# Altium footprint library sm_diode.PcbLib: 24 footprints (part 1 of 2)
Each footprint in its own frame and in the unit in brackets; x right, y up, seen from the top. Pads: shape width x height; smd on the part's side, far side on the other; paste and mask are expansions set on the pad; w line width, h text height; cw(c..) or ccw(c..) is an arc to the next point about the centre after c.
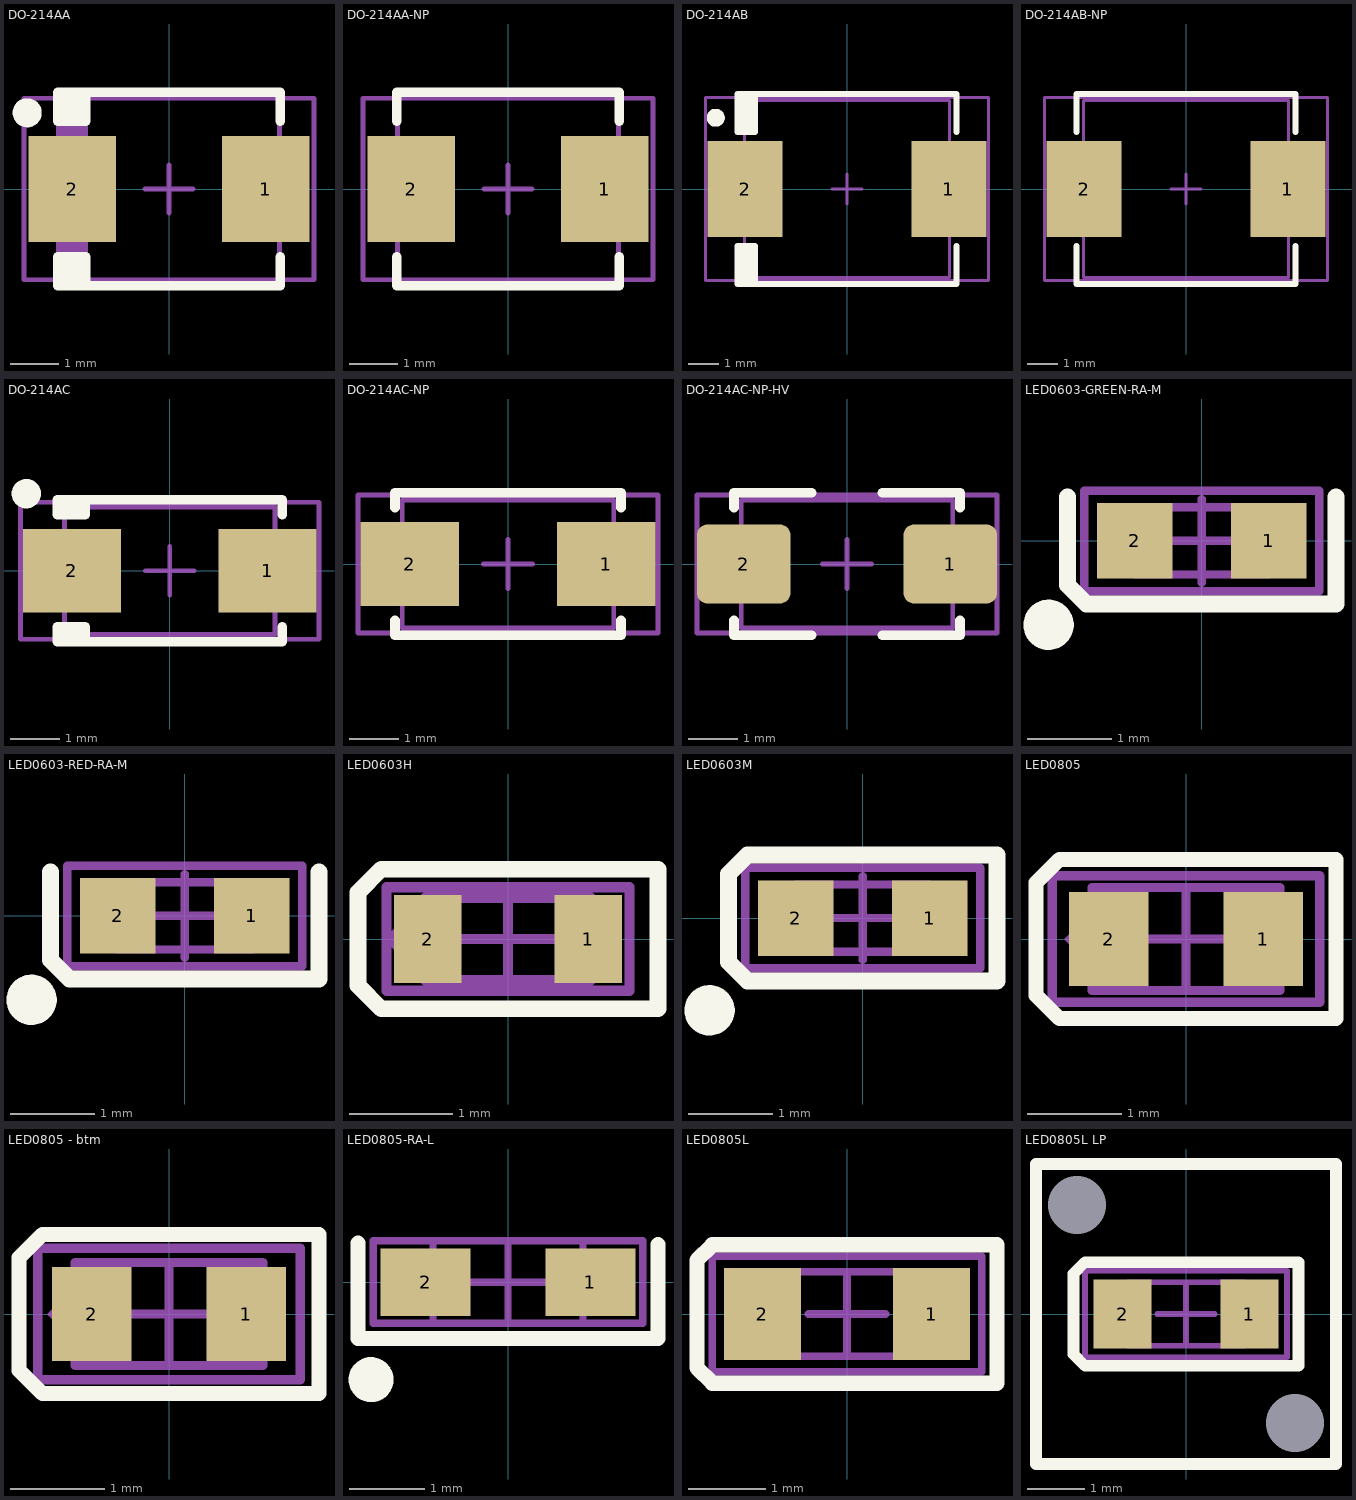
[diagram p0: the footprints below, top view; thin cyan lines are the x and y axes]

## DO-214AA [mm] "Molded Diode, 2-Leads, Body 4.3x3.6mm, IPC High Density"
height 2.4
pads (2):
  rect 1.8x2.2 smd: 1(2,0) 2(-2,0)
Top Overlay:
  circle w0.3: c-2.93,1.575 r0.15
  rectangle: -2.3,1.4 -1.735,2
  rectangle: -2.3,-2 -1.735,-1.4
  lines w0.2: -1.725,-2 -1.725,-1.4 -2.3,-1.4 -2.3,-2 2.3,-2 2.3,-1.405 ; -1.725,2 -1.725,1.4 -2.3,1.4 -2.3,2 2.3,2 2.3,1.405
Mechanical 13:
  rectangle: -2.285,-1.97 -1.67,1.97
  lines w0.1: -0.5,0 0.5,0 ; 0,-0.5 0,0.5 ; -2.285,-1.97 2.285,-1.97 2.285,1.97 -2.285,1.97 -2.285,-1.97
Mechanical 15:
  region: -2.1,-0.7 -2.8,0 -2.1,0.7
  lines w0.1: -3,-1.875 3,-1.875 3,1.875 -3,1.875 -3,-1.875
  text ".Designator" at -0.875,-0.175 h0.5
3D body "SW3dPS-DO-214AA SMB.step": height 2.3, standoff 0, extent -2.7,-1.8 2.7,1.8

## DO-214AA-NP [mm] "Molded Diode, 2-Leads, Body 4.3x3.6mm, IPC High Density"
height 2.4
pads (2):
  rect 1.8x2.2 smd: 1(2,0) 2(-2,0)
Top Overlay:
  lines w0.2: -2.3,-1.4 -2.3,-2 2.3,-2 2.3,-1.405 ; -2.3,1.4 -2.3,2 2.3,2 2.3,1.405
Mechanical 13:
  lines w0.1: -0.5,0 0.5,0 ; 0,-0.5 0,0.5 ; -2.285,-1.97 -2.285,1.97 2.285,1.97 2.285,-1.97 -2.285,-1.97
Mechanical 15:
  lines w0.1: -3,-1.875 -3,1.875 3,1.875 3,-1.875 -3,-1.875
  text ".Designator" at -0.875,-0.175 h0.8
3D body "SW3dPS-DO-214AA SMB.step": height 2.3, standoff 0, extent -2.7,-1.8 2.7,1.8

## DO-214AB [mm] "Molded Diode, 2-Leads, Body 6.9x6.1mm, IPC Medium Density"
height 2.5
pads (2):
  rect 2.5x3.2 smd: 1(3.4,0) 2(-3.4,0)
Top Overlay:
  circle w0.3: c-4.375,2.375 r0.15
  rectangle: -3.64,1.875 -3.075,3.175
  rectangle: -3.65,-3.175 -3.085,-1.875
  lines w0.2: -3.075,-3.175 -3.075,-1.9 -3.65,-1.9 -3.65,-3.175 3.65,-3.175 3.65,-1.9 ; -3.075,3.175 -3.075,1.9 -3.65,1.9 -3.65,3.175 3.65,3.175 3.65,1.9
Mechanical 13:
  lines w0.1: -3.425,-1.525 -3.975,-1.525 -3.975,1.525 -3.425,1.525 ; -0.5,0 0.5,0 ; 0,-0.5 0,0.5 ; 3.425,-1.525 3.975,-1.525 3.975,1.525 3.425,1.525 ; -3.425,-2.95 3.425,-2.95 3.425,2.95 -3.425,2.95 -3.425,-2.95
Mechanical 15:
  region: -3.7,-0.8 -4.5,0 -3.7,0.8
  lines w0.1: -4.725,-3.05 4.725,-3.05 4.725,3.05 -4.725,3.05 -4.725,-3.05
  text ".Designator" at -0.875,-0.175 h0.5
3D body "User Library-DO-214AB SMC.step": height 2.3, standoff 0, extent -3.975,-2.95 3.975,2.95

## DO-214AB-NP [mm] "Molded Diode, 2-Leads, Body 6.9x6.1mm, IPC Medium Density"
height 2.5
pads (2):
  rect 2.5x3.2 smd: 1(3.4,0) 2(-3.4,0)
Top Overlay:
  lines w0.2: -3.65,-1.9 -3.65,-3.175 3.65,-3.175 3.65,-1.9 ; -3.65,1.9 -3.65,3.175 3.65,3.175 3.65,1.9
Mechanical 13:
  lines w0.1: -3.425,-1.525 -3.975,-1.525 -3.975,1.525 -3.425,1.525 ; -0.5,0 0.5,0 ; 0,-0.5 0,0.5 ; 3.425,-1.525 3.975,-1.525 3.975,1.525 3.425,1.525 ; -3.425,-2.95 -3.425,2.95 3.425,2.95 3.425,-2.95 -3.425,-2.95
Mechanical 15:
  lines w0.1: -4.725,-3.05 -4.725,3.05 4.725,3.05 4.725,-3.05 -4.725,-3.05
  text ".Designator" at -0.875,-0.175 h0.8
3D body "User Library-DO-214AB SMC.step": height 2.3, standoff 0, extent -3.975,-2.95 3.975,2.95

## DO-214AC [mm] "Molded Diode, 2-Leads, Body 4.3x2.6mm, IPC High Density"
height 2.15
pads (2):
  rect 2x1.7 smd: 1(2,0) 2(-2,0)
Top Overlay:
  circle w0.3: c-2.93,1.575 r0.15
  rectangle: -2.3,1.125 -1.725,1.45
  rectangle: -2.3,-1.45 -1.71,-1.125
  lines w0.2: -1.725,-1.45 -1.725,-1.15 -2.3,-1.15 -2.3,-1.45 2.3,-1.45 2.3,-1.15 ; -1.725,1.45 -1.725,1.15 -2.3,1.15 -2.3,1.45 2.3,1.45 2.3,1.15
Mechanical 13:
  lines w0.1: -0.5,0 0.5,0 ; 0,-0.5 0,0.5 ; -2.15,-1.3 2.15,-1.3 2.15,1.3 -2.15,1.3 -2.15,-1.3
Mechanical 15:
  region: -2.3,-0.6 -2.9,0 -2.3,0.6
  lines w0.1: -3.05,-1.4 3.05,-1.4 3.05,1.4 -3.05,1.4 -3.05,-1.4
  text ".Designator" at -0.875,-0.175 h0.5
3D body "DO-214AC.step": height 2.3, standoff -0.1, extent -2.6,-1.3 2.6,1.3

## DO-214AC-NP [mm] "Molded Diode, 2-Leads, Body 4.3x2.6mm, IPC Medium Density"
height 2.15
pads (2):
  rect 2x1.7 smd: 1(2,0) 2(-2,0)
Top Overlay:
  lines w0.2: -2.3,-1.15 -2.3,-1.45 2.3,-1.45 2.3,-1.15 ; -2.3,1.15 -2.3,1.45 2.3,1.45 2.3,1.15
Mechanical 13:
  lines w0.1: -0.5,0 0.5,0 ; 0,-0.5 0,0.5 ; -2.15,-1.3 -2.15,1.3 2.15,1.3 2.15,-1.3 -2.15,-1.3
Mechanical 15:
  lines w0.1: -3.05,-1.4 -3.05,1.4 3.05,1.4 3.05,-1.4 -3.05,-1.4
  text ".Designator" at -0.875,-0.175 h0.5
3D body "User Library-SMAJ.step": height 2.01, standoff 0.01, extent -2.465,-1.27 2.465,1.27

## DO-214AC-NP-HV [mm] "Molded Diode, 2-Leads, Body 4.3x2.6mm, High Voltage"
height 2.15
pads (2):
  rrect25% 1.9x1.6 smd: 1(2.1,0) 2(-2.1,0)
Top Overlay:
  lines w0.2: -2.3,-1.15 -2.3,-1.45 -0.725,-1.45 ; -2.3,1.15 -2.3,1.45 -0.725,1.45 ; 0.725,-1.45 2.3,-1.45 2.3,-1.15 ; 0.725,1.45 2.3,1.45 2.3,1.15
Mechanical 13:
  lines w0.1: -0.5,0 0.5,0 ; 0,-0.5 0,0.5 ; -2.15,-1.3 2.15,-1.3 2.15,1.3 -2.15,1.3 -2.15,-1.3
Mechanical 15:
  lines w0.1: -3.05,-1.4 3.05,-1.4 3.05,1.4 -3.05,1.4 -3.05,-1.4
  text ".Designator" at -0.875,-0.175 h0.8
3D body "User Library-SMAJ.step": height 2.01, standoff 0.01, extent -2.465,-1.27 2.465,1.27

## LED0603-GREEN-RA-M [mm] "Chip LED 0603 - Right Angle - Medium Density"
height 0.75
pads (2):
  rect 0.9x0.9 smd: 1(0.8,0) 2(-0.8,0)
Top Overlay:
  circle w0.3: c-1.825,-1 r0.15
  lines w0.2: -1.6,0.525 -1.6,-0.525 -1.375,-0.75 1.6,-0.75 1.6,0.525
Mechanical 13:
  lines w0.1: -0.5,0 0.5,0 ; 0,-0.5 0,0.5 ; -0.8,-0.4 0.8,-0.4 0.8,0.4 -0.8,0.4 -0.8,-0.4
Mechanical 15:
  region: -0.875,-0.325 -1.2,0 -0.875,0.325
  lines w0.1: -1.4,-0.6 1.4,-0.6 1.4,0.6 -1.4,0.6 -1.4,-0.6
  text ".Designator" at -0.775,-0.275 h0.5
3D body "User Library-LTST-S270KGKT-1.step": height 0.62, standoff 0.02, extent -0.825,-0.275 0.825,0.875

## LED0603-RED-RA-M [mm] "Chip LED 0603 - Right Angle - Medium Density"
height 0.75
pads (2):
  rect 0.9x0.9 smd: 1(0.8,0) 2(-0.8,0)
Top Overlay:
  circle w0.3: c-1.825,-1 r0.15
  lines w0.2: -1.6,0.525 -1.6,-0.525 -1.375,-0.75 1.6,-0.75 1.6,0.525
Mechanical 13:
  lines w0.1: -0.5,0 0.5,0 ; 0,-0.5 0,0.5 ; -0.8,-0.4 0.8,-0.4 0.8,0.4 -0.8,0.4 -0.8,-0.4
Mechanical 15:
  region: -0.875,-0.325 -1.2,0 -0.875,0.325
  lines w0.1: -1.4,-0.6 1.4,-0.6 1.4,0.6 -1.4,0.6 -1.4,-0.6
  text ".Designator" at -0.775,-0.275 h0.5
3D body "User Library-LTST-S270CKT.step": height 0.62, standoff 0.02, extent -0.825,-0.275 0.825,0.875

## LED0603H [mm] "Chip LED 0603 - High Density"
height 0.75
pads (2):
  rect 0.65x0.85 smd: 1(0.775,0) 2(-0.775,0)
Top Overlay:
  lines w0.16: -1.45,-0.45 -1.45,0.45 -1.225,0.675 1.45,0.675 1.45,-0.675 -1.225,-0.675 -1.45,-0.45
Mechanical 13:
  lines w0.1: -0.5,0 0.5,0 ; 0,-0.5 0,0.5 ; -0.8,-0.4 -0.8,0.4 0.8,0.4 0.8,-0.4 -0.8,-0.4
Mechanical 15:
  region: -0.875,-0.325 -1.2,0 -0.875,0.325
  lines w0.1: -1.175,-0.5 -1.175,0.5 1.175,0.5 1.175,-0.5 -1.175,-0.5
  text ".Designator" at -0.775,-0.275 h0.5
3D body "User Library-LED0603.step": height 1.11, standoff 0.01, extent -0.8,-0.394 0.8,0.394

## LED0603M [mm] "Chip LED 0603 - Medium Density"
height 0.75
pads (2):
  rect 0.9x0.9 smd: 1(0.8,0) 2(-0.8,0)
Top Overlay:
  circle w0.3: c-1.825,-1.1 r0.15
  lines w0.2: -1.6,-0.525 -1.375,-0.75 1.6,-0.75 1.6,0.75 -1.375,0.75 -1.6,0.525 -1.6,-0.525
Mechanical 13:
  lines w0.1: -0.5,0 0.5,0 ; 0,-0.5 0,0.5 ; -0.8,-0.4 0.8,-0.4 0.8,0.4 -0.8,0.4 -0.8,-0.4
Mechanical 15:
  region: -0.875,-0.325 -1.2,0 -0.875,0.325
  lines w0.1: -1.4,-0.6 1.4,-0.6 1.4,0.6 -1.4,0.6 -1.4,-0.6
  text ".Designator" at -0.775,-0.275 h0.5
3D body "User Library-LED0603.step": height 1.11, standoff 0.01, extent -0.8,-0.394 0.8,0.394

## LED0805 [mm] "Chip LED 0805"
height 0.8
pads (2):
  rect 0.85x1 smd: 1(0.825,0) 2(-0.825,0)
Top Overlay:
  lines w0.16: -1.6,-0.6 -1.35,-0.85 1.6,-0.85 1.6,0.85 -1.35,0.85 -1.6,0.6 -1.6,-0.6
Mechanical 13:
  lines w0.1: -0.5,0 0.5,0 ; 0,-0.5 0,0.5 ; -1,-0.55 1,-0.55 1,0.55 -1,0.55 -1,-0.55
Mechanical 15:
  region: -0.975,-0.325 -1.3,0 -0.975,0.325
  lines w0.1: -1.425,-0.675 1.425,-0.675 1.425,0.675 -1.425,0.675 -1.425,-0.675
  text ".Designator" at -0.775,-0.275 h0.5
3D body "User Library-LED SMD0805.step": height 0.83, standoff -0.01, extent -1.031,-0.453 1.031,0.453

## LED0805 - btm [mm] "Chip LED 0805"
height 0.8
pads (2):
  rect 0.85x1 smd: 1(0.825,0) 2(-0.825,0)
Top Overlay:
  lines w0.16: -1.6,-0.6 -1.35,-0.85 1.6,-0.85 1.6,0.85 -1.35,0.85 -1.6,0.6 -1.6,-0.6
Mechanical 13:
  lines w0.1: -0.5,0 0.5,0 ; 0,-0.5 0,0.5 ; -1,-0.55 1,-0.55 1,0.55 -1,0.55 -1,-0.55
Mechanical 18:
  region: -0.975,-0.325 -1.3,0 -0.975,0.325
  lines w0.1: -1.4,-0.7 -1.4,0.7 1.4,0.7 1.4,-0.7 -1.4,-0.7
  text ".Designator" at -0.1,-0.1 h0.5
3D body "User Library-LED SMD0805.step": height 0.83, standoff -0.01, extent -1.031,-0.453 1.031,0.453

## LED0805-RA-L [mm] "Chip LED 0805 - Right Angle, Low Density"
height 0.6
pads (2):
  rect 1.2x0.9 smd: 1(1.1,0) 2(-1.1,0)
Top Overlay:
  circle w0.3: c-1.825,-1.3 r0.15
  lines w0.2: -2,0.525 -2,-0.75 2,-0.75 2,0.5
Mechanical 13:
  lines w0.1: -0.5,0 0.5,0 ; 0,-0.5 0,0.5 ; -1,-0.55 -1,0.55 1,0.55 1,-0.55 -1,-0.55
Mechanical 15:
  region: -1.25,-0.325 -1.575,0 -1.25,0.325
  lines w0.1: -1.8,-0.55 -1.8,0.55 1.8,0.55 1.8,-0.55 -1.8,-0.55
  text ".Designator" at -0.775,-0.275 h0.5
3D body: height 0.6, standoff 0, extent -0.65,0.25 0.65,0.75
3D body: height 0.6, standoff 0, extent 0.75,-0.25 1.05,0.25
3D body: height 0.6, standoff 0, extent -1.05,-0.25 -0.75,0.25
3D body: height 0.6, standoff 0, extent -0.75,-0.25 0.75,0.25

## LED0805L [mm] "Chip LED 0805 - Low Density"
height 0.8
pads (2):
  rect 1x1.2 smd: 1(1.1,0) 2(-1.1,0)
Top Overlay:
  lines w0.2: -1.95,-0.7 -1.95,0.7 -1.75,0.9 1.95,0.9 1.95,-0.9 -1.75,-0.9 -1.95,-0.7
Mechanical 13:
  lines w0.1: -0.5,0 0.5,0 ; 0,-0.5 0,0.5 ; -1,-0.55 -1,0.55 1,0.55 1,-0.55 -1,-0.55
Mechanical 15:
  region: -1.25,-0.325 -1.575,0 -1.25,0.325
  lines w0.1: -1.75,-0.75 -1.75,0.75 1.75,0.75 1.75,-0.75 -1.75,-0.75
  text ".Designator" at -0.775,-0.275 h0.5
3D body "User Library-LED SMD0805.step": height 0.83, standoff -0.01, extent -1.031,-0.453 1.031,0.453

## LED0805L LP [mm] "Chip LED 0805 - With Light Pipe - Low Density"
height 0.8
pads (4):
  round 0 hole 1 unplated: 0(-1.89,1.89) 0(1.89,-1.89)
  rect 1x1.2 smd: 1(1.1,0) 2(-1.1,0)
Top Overlay:
  lines w0.2: -2.6,-2.6 -2.6,2.6 2.6,2.6 2.6,-2.6 -2.6,-2.6 ; -1.95,-0.7 -1.75,-0.9 1.95,-0.9 1.95,0.9 -1.75,0.9 -1.95,0.7 -1.95,-0.7
Mechanical 13:
  lines w0.1: -0.5,0 0.5,0 ; 0,-0.5 0,0.5 ; -1,-0.55 1,-0.55 1,0.55 -1,0.55 -1,-0.55
Mechanical 15:
  region: -1.25,-0.325 -1.575,0 -1.25,0.325
  lines w0.1: -1.75,-0.75 1.75,-0.75 1.75,0.75 -1.75,0.75 -1.75,-0.75
  text ".Designator" at -0.775,-0.275 h0.5
3D body "User Library-LED SMD0805.step": height 0.83, standoff -0.01, extent -1.031,-0.453 1.031,0.453